# Altium footprint library HEXCAL_PCB_LIB.PcbLib: 209 footprints (part 13 of 14)
Each footprint in its own frame and in the unit in brackets; x right, y up, seen from the top. Pads: shape width x height; smd on the part's side, far side on the other; paste and mask are expansions set on the pad; w line width, h text height; cw(c..) or ccw(c..) is an arc to the next point about the centre after c.
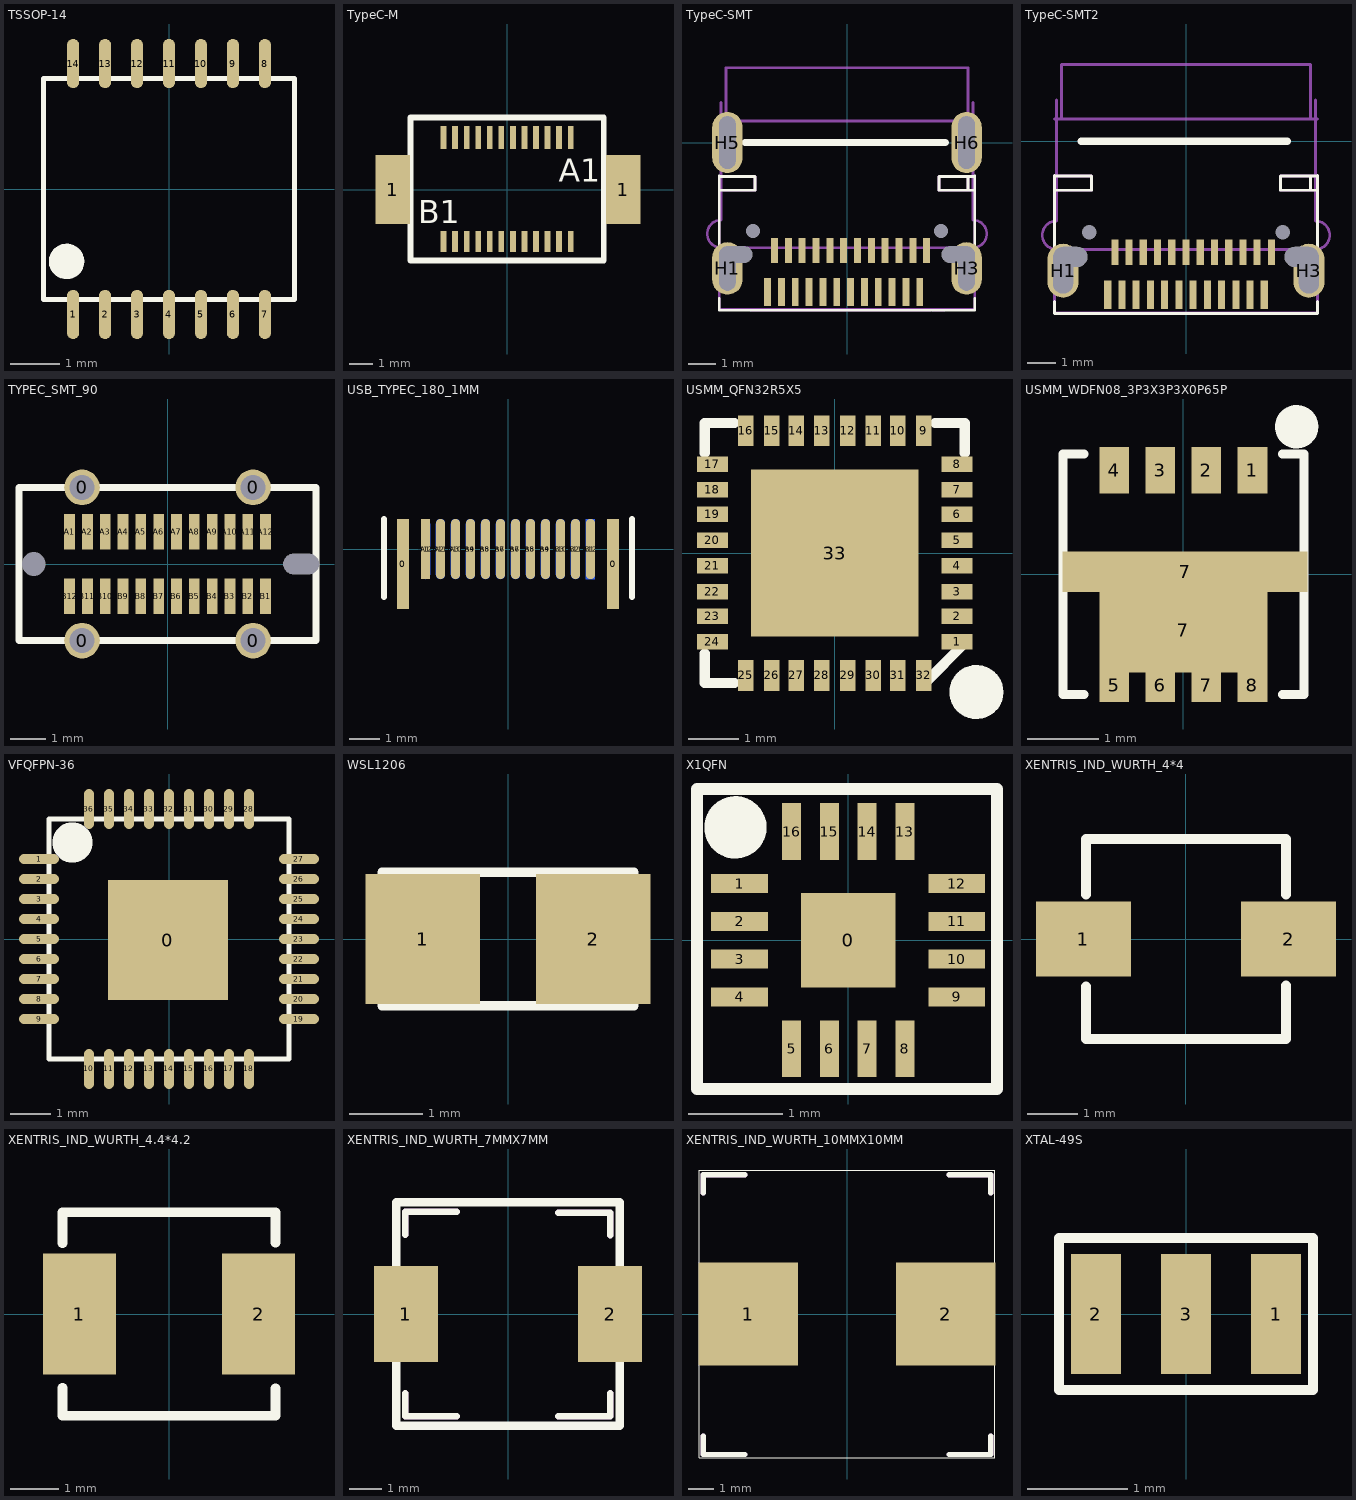
[diagram p12: the footprints below, top view; thin cyan lines are the x and y axes]

## TSSOP-14 [mm]
pads (14):
  oval 0.25x1 smd: 1(-1.95,-2.55) 2(-1.3,-2.55) 3(-0.65,-2.55) 4(0,-2.55) 5(0.65,-2.55) 6(1.3,-2.55) 7(1.95,-2.55) 8(1.95,2.55) 9(1.3,2.55) 10(0.65,2.55) 11(0,2.55) 12(-0.65,2.55) 13(-1.3,2.55) 14(-1.95,2.55)
Top Overlay:
  circle w0.254: c-2.083,-1.473 r0.076
  circle w0.254: c-2.083,-1.473 r0.234
  lines w0.1: -2.55,-2.25 2.55,-2.25 2.55,2.25 -2.55,2.25 -2.55,-2.25

## TypeC-M [mm]
pads (26):
  rect 1.5x3 smd: 1(-4.953,0) 1(5.029,0)
  rect 0.25x1 smd: A1(2.75,2.25) A2(2.25,2.25) A3(1.75,2.25) A4(1.25,2.25) A5(0.75,2.25) A6(0.25,2.25) A7(-0.25,2.25) A8(-0.75,2.25) A9(-1.25,2.25) A10(-1.75,2.25) A11(-2.25,2.25) A12(-2.75,2.25)
  rect 0.25x0.9 smd: B1(-2.75,-2.25) B2(-2.25,-2.25) B3(-1.75,-2.25) B4(-1.25,-2.25) B5(-0.75,-2.25) B6(-0.25,-2.25) B7(0.25,-2.25) B8(0.75,-2.25) B9(1.25,-2.25) B10(1.75,-2.25) B11(2.25,-2.25) B12(2.75,-2.25)
Top Overlay:
  lines w0.254: -4.18,-1.4 -4.18,0 ; 4.18,0 4.18,1.4 ; -4.18,-3.073 4.18,-3.073 4.18,3.124 0.741,3.124 -4.18,3.124 -4.18,-3.073
  text "A1" at 2.235,0.33 h1
  text "B1" at -3.835,-1.448 h1

## TypeC-SMT [mm]
pads (32):
  round 0 hole 0.5 unplated: 0(-3.4,-3.2) 0(3.4,-3.2)
  rect 0.25x1 smd: A1(2.63,-5.4) A2(2.13,-5.4) A3(1.63,-5.4) A4(1.13,-5.4) A5(0.63,-5.4) A6(0.13,-5.4) A7(-0.37,-5.4) A8(-0.87,-5.4) A9(-1.37,-5.4) A10(-1.87,-5.4) A11(-2.37,-5.4) A12(-2.87,-5.4)
  rect 0.25x0.9 smd: B1(-2.62,-3.9) B2(-2.12,-3.9) B3(-1.62,-3.9) B4(-1.12,-3.9) B5(-0.62,-3.9) B6(-0.12,-3.9) B7(0.38,-3.9) B8(0.88,-3.9) B9(1.38,-3.9) B10(1.88,-3.9) B11(2.38,-3.9) B12(2.88,-3.9)
  oval 1.1x1.9 hole 0.6 slot 1.6 at 90 deg: H1(-4.32,-4.55) H3(4.32,-4.55)
  round 0 hole 0.6 slot 1.2 at 0 deg: H2(-4.02,-4.05) H4(4.02,-4.05)
  oval 1.1x2.2 hole 0.6 slot 1.9 at 90 deg: H5(-4.32,0) H6(4.32,0)
Top Overlay:
  lines w0.1: -4.62,-6.058 4.62,-6.058 ; -4.62,-6.033 -4.62,-5.633 ; -4.62,-4.5 -4.62,-1.2 ; -4.62,-1.725 -3.32,-1.725 -3.32,-1.225 -4.62,-1.225 ; -2.372,-6.058 -2.26,-6.058 -1.12,-6.058 ; 4.37,-1.725 4.37,-1.225 ; 4.62,-6.023 4.62,-5.633 ; 4.62,-4.5 4.62,-1.2 ; 4.62,-1.725 3.32,-1.725 3.32,-1.225 4.62,-1.225
  lines w0.254: -3.683,0 3.556,0
Mechanical 1:
  lines w0.1: -4.55,1.45 -4.55,-2.8 ccw(c-4.55,-3.3) -4.55,-3.8 4.55,-3.8 ccw(c4.55,-3.3) 4.55,-2.8 4.55,1.45
Mechanical 5:
  lines w0.1: -4.62,-6.033 0,-6.033 4.609,-6.033 4.62,-6.023 4.62,-1.2 ; -4.62,-1.225 -3.32,-1.225 -3.32,-1.725 -4.62,-1.725 -4.62,-6.02 -4.62,-1.2 ; -4.62,0.775 -3.32,0.775 3.32,0.775 4.62,0.775 ; -4.37,0.775 -4.37,2.7 ; -4.37,0.8 -4.37,2.458 ; -4.369,2.7 4.37,2.7 4.37,0.775 ; -3.461,-6.058 -3.124,-6.058 ; -3.244,-6.058 -3.171,-6.058 -2.372,-6.058 -2.26,-6.058 2.02,-6.058 2.132,-6.058 2.931,-6.058 3.004,-6.058 ; 3.124,-6.058 3.461,-6.058 3.5,-6.058 ; 4.37,-1.725 4.37,-1.225 ; 4.37,0.8 4.37,2.458 ; 4.62,-6.02 4.62,-1.725 3.32,-1.725 3.32,-1.225 4.62,-1.225

## TypeC-SMT2 [mm]
pads (30):
  round 0 hole 0.5: 0(3.4,-3.2) 1(-3.4,-3.2)
  rect 0.25x1 smd: A1(2.75,-5.4) A2(2.25,-5.4) A3(1.75,-5.4) A4(1.25,-5.4) A5(0.75,-5.4) A6(0.25,-5.4) A7(-0.25,-5.4) A8(-0.75,-5.4) A9(-1.25,-5.4) A10(-1.75,-5.4) A11(-2.25,-5.4) A12(-2.75,-5.4)
  rect 0.25x0.9 smd: B1(-2.5,-3.9) B2(-2,-3.9) B3(-1.5,-3.9) B4(-1,-3.9) B5(-0.5,-3.9) B6(0,-3.9) B7(0.5,-3.9) B8(1,-3.9) B9(1.5,-3.9) B10(2,-3.9) B11(2.5,-3.9) B12(3,-3.9)
  oval 1.1x1.9 hole 0.7 slot 1.6 at 90 deg: H1(-4.32,-4.55) H3(4.32,-4.55)
  round 0 hole 0.7 slot 1.2 at 0 deg: H2(-4.064,-4.064)
  oval 1.4x0 hole 0.7 slot 1.2 at 0 deg: H4(4.064,-4.064)
Top Overlay:
  lines w0.1: -4.62,-6.058 4.62,-6.058 ; -4.62,-6.033 -4.62,-5.633 ; -4.62,-4.5 -4.62,-1.2 ; -4.62,-1.725 -3.32,-1.725 -3.32,-1.225 -4.62,-1.225 ; -2.252,-6.058 -2.14,-6.058 -1,-6.058 ; 4.37,-1.725 4.37,-1.225 ; 4.62,-6.023 4.62,-5.633 ; 4.62,-4.5 4.62,-1.2 ; 4.62,-1.725 3.32,-1.725 3.32,-1.225 4.62,-1.225
  lines w0.254: -3.683,0 3.556,0
Mechanical 1:
  lines w0.1: -4.55,1.45 -4.55,-2.8 ccw(c-4.55,-3.3) -4.55,-3.8 4.55,-3.8 ccw(c4.55,-3.3) 4.55,-2.8 4.55,1.45
Mechanical 5:
  lines w0.1: -4.62,-6.033 0,-6.033 4.609,-6.033 4.62,-6.023 4.62,-1.2 ; -4.62,-1.225 -3.32,-1.225 -3.32,-1.725 -4.62,-1.725 -4.62,-6.02 -4.62,-1.2 ; -4.62,0.775 -3.32,0.775 3.32,0.775 4.62,0.775 ; -4.37,0.775 -4.37,2.7 ; -4.37,0.8 -4.37,2.458 ; -4.369,2.7 4.37,2.7 4.37,0.775 ; -3.461,-6.058 -3.124,-6.058 -3.051,-6.058 -2.252,-6.058 -2.14,-6.058 2.14,-6.058 2.252,-6.058 3.051,-6.058 3.124,-6.058 3.461,-6.058 3.5,-6.058 ; 4.37,-1.725 4.37,-1.225 ; 4.37,0.8 4.37,2.458 ; 4.62,-6.02 4.62,-1.725 3.32,-1.725 3.32,-1.225 4.62,-1.225

## TYPEC_SMT_90 [mm]
pads (30):
  rect 0x0 hole 0.66 unplated: 0(-3.75,0)
  round 1 hole 0.7 unplated: 0(-2.4,-2.15) 0(-2.4,2.15) 0(2.4,-2.15) 0(2.4,2.15)
  round 0 hole 0.58 slot 1 at 0 deg unplated: 0(3.75,0)
  rect 0.3x1 smd: A1(-2.75,0.9) A2(-2.25,0.9) A3(-1.75,0.9) A4(-1.25,0.9) A5(-0.75,0.9) A6(-0.25,0.9) A7(0.25,0.9) A8(0.75,0.9) A9(1.25,0.9) A10(1.75,0.9) A11(2.25,0.9) A12(2.75,0.9) B1(2.75,-0.9) B2(2.25,-0.9) B3(1.75,-0.9) B4(1.25,-0.9) B5(0.75,-0.9) B6(0.25,-0.9) B7(-0.25,-0.9) B8(-0.75,-0.9) B9(-1.25,-0.9) B10(-1.75,-0.9) B11(-2.25,-0.9) B12(-2.75,-0.9)
Top Overlay:
  lines w0.2: -4.17,-2.15 4.17,-2.15 4.17,2.15 2.4,2.15 -2.4,2.15 -4.17,2.15 -4.17,-2.15

## USB_TYPEC_180_1MM [mm]
pads (26):
  rect 0.4x3 all layers, no hole: 0(-3.5,-0.5) 0(3.5,-0.5)
  rect 0.3x2 smd: A1(-2.75,0)
  oval 0.3x2 smd: A2(-2.25,0) A3(-1.75,0) A4(-1.25,0) A5(-0.75,0) A6(-0.25,0) A7(0.25,0) A8(0.75,0) A9(1.25,0) A10(1.75,0) A11(2.25,0) A12(2.75,0)
  rect 0.3x2 smd far side: B1(2.75,0)
  oval 0.3x2 smd far side: B2(2.25,0) B3(1.75,0) B4(1.25,0) B5(0.75,0) B6(0.25,0) B7(-0.25,0) B8(-0.75,0) B9(-1.25,0) B10(-1.75,0) B11(-2.25,0) B12(-2.75,0)
Top Overlay:
  lines w0.2: -4.125,-1.6 -4.125,1 ; 4.125,-1.6 4.125,1

## USMM_QFN32R5X5 [mil]
pads (33):
  rect 24x12 smd: 1(95,-69) 2(95,-49) 3(95,-30) 4(95,-10) 5(95,10) 6(95,30) 7(95,49) 8(95,69) 17(-95,69) 18(-95,49) 19(-95,30) 20(-95,10) 21(-95,-10) 22(-95,-30) 23(-95,-49) 24(-95,-69)
  rect 12x24 smd: 9(69,95) 10(49,95) 11(30,95) 12(10,95) 13(-10,95) 14(-30,95) 15(-49,95) 16(-69,95) 25(-69,-95) 26(-49,-95) 27(-30,-95) 28(-10,-95) 29(10,-95) 30(30,-95) 31(49,-95) 32(69,-95)
  rect 129.92x129.92 smd: 33(0,0)
Top Overlay:
  circle w10: c110,-108 r16.03
  circle w10: c110,-108 r5
  circle w8: c110,-108 r12.13
  lines w8: -101,-78 -101,-101 -78,-101 ; -101,78 -101,101 -78,101 ; 71,-100 100,-71 ; 78,101 101,101 101,78

## USMM_WDFN08_3P3X3P3X0P65P [mm]
pads (10):
  rect 0.42x0.66 smd: 1(0.975,1.47) 2(0.325,1.47) 3(-0.325,1.47) 4(-0.975,1.47)
  rect 0.42x0.47 smd: 5(-0.975,-1.565) 6(-0.325,-1.565) 7(0.325,-1.565) 8(0.975,-1.565)
  rect 2.37x1.2 smd: 7(0,-0.787)
  rect 3.46x0.57 smd: 7(0.025,0.035)
Top Overlay:
  circle w0.254: c1.6,2.083 r0.18
  circle w0.254: c1.6,2.083 r0.105
  circle w0.254: c1.6,2.083 r0.105
  lines w0.127: -1.4,-1.7 -1.7,-1.7 -1.7,1.7 -1.4,1.7 ; 1.4,-1.7 1.7,-1.7 1.7,1.7 1.4,1.7

## VFQFPN-36 [mm]
pads (37):
  rect 3x3 smd: 0(-0.025,-0.025)
  oval 1x0.25 smd: 1(-3.25,2) 2(-3.25,1.5) 3(-3.25,1) 4(-3.25,0.5) 5(-3.25,0) 6(-3.25,-0.5) 7(-3.25,-1) 8(-3.25,-1.5) 9(-3.25,-2) 19(3.25,-2) 20(3.25,-1.5) 21(3.25,-1) 22(3.25,-0.5) 23(3.25,0) 24(3.25,0.5) 25(3.25,1) 26(3.25,1.5) 27(3.25,2)
  oval 0.25x1 smd: 10(-2,-3.25) 11(-1.5,-3.25) 12(-1,-3.25) 13(-0.5,-3.25) 14(0,-3.25) 15(0.5,-3.25) 16(1,-3.25) 17(1.5,-3.25) 18(2,-3.25) 28(2,3.25) 29(1.5,3.25) 30(1,3.25) 31(0.5,3.25) 32(0,3.25) 33(-0.5,3.25) 34(-1,3.25) 35(-1.5,3.25) 36(-2,3.25)
Top Overlay:
  circle w0.889: c-2.413,2.413 r0.057
  lines w0.127: -3,-3 -3,3 3,3 3,-3 -3,-3

## WSL1206 [mil]
pads (2):
  rect 62x70 smd: 1(-46,0) 2(46,0)
Top Overlay:
  lines w1: -68,-36 -68,36 68,36 68,-36 -68,-36
  lines w5: -68,-36 -68,36 68,36 68,-36 -68,-36
Mechanical 7:
  lines w1: -68,-35 -68,-36 68,-36 68,-35 ; -68,35 -68,36 68,36 68,35

## X1QFN [mm]
pads (17):
  rect 1x1 smd: 0(0,0)
  rect 0.6x0.2 smd: 1(-1.15,0.6) 2(-1.15,0.2) 3(-1.15,-0.2) 4(-1.15,-0.6) 9(1.15,-0.6) 10(1.15,-0.2) 11(1.15,0.2) 12(1.15,0.6)
  rect 0.2x0.6 smd: 5(-0.6,-1.15) 6(-0.2,-1.15) 7(0.2,-1.15) 8(0.6,-1.15) 13(0.6,1.15) 14(0.2,1.15) 15(-0.2,1.15) 16(-0.6,1.15)
Top Overlay:
  circle w0.254: c-1.194,1.194 r0.203
  circle w0.254: c-1.194,1.194 r0.114
  lines w0.127: -1.6,-1.575 -1.6,1.6 1.575,1.6 1.575,-1.575 -1.6,-1.575

## XENTRIS_IND_WURTH_4*4 [mm]
pads (2):
  rect 1.9x1.5 smd: 1(-2.05,0) 2(2.05,0)
Top Overlay:
  lines w0.2: -2,-0.953 -2,-2 2,-2 2,-0.927 ; -2,0.889 -2,2 2,2 2,0.889

## XENTRIS_IND_WURTH_4.4*4.2 [mm]
pads (2):
  rect 1.5x2.5 smd: 1(-1.85,0) 2(1.85,0)
Top Overlay:
  lines w0.2: -2.2,-1.524 -2.2,-2.1 2.2,-2.1 2.2,-1.537 ; -2.2,1.46 -2.2,2.1 2.2,2.1 2.2,1.473

## XENTRIS_IND_WURTH_7MMX7MM [mm]
pads (2):
  rect 2x3 smd: 1(-3.2,0) 2(3.2,0)
Top Overlay:
  lines w0.203: -3.226,-2.489 -3.226,-3.2 -1.6,-3.2 ; -3.226,2.489 -3.226,3.2 -1.6,3.2 ; 1.575,-3.2 3.2,-3.2 3.2,-2.489 ; 1.575,3.175 3.2,3.175 3.2,2.464
  lines w0.254: -3.5,-3.5 -3.5,3.5 3.5,3.5 3.5,-3.5 -3.5,-3.5
Mechanical 7:
  lines w0.203: -3.226,-2.489 -3.226,-3.2 -1.6,-3.2 ; -3.226,2.489 -3.226,3.2 -1.6,3.2 ; 1.575,-3.2 3.2,-3.2 3.2,-2.489 ; 1.575,3.175 3.2,3.175 3.2,2.464

## XENTRIS_IND_WURTH_10MMX10MM [mil]
pads (2):
  rect 152x157 smd: 1(-151,0) 2(151,0)
Top Overlay:
  lines w1: -226,-220 226,-220 226,220 -226,220 -226,-220
  lines w8: -220,-187 -220,-215 -156,-215 ; -220,185 -220,213 -156,213 ; 156,-215 220,-215 220,-187 ; 156,213 220,213 220,185
Mechanical 7:
  lines w8: -220,-187 -220,-215 -156,-215 ; -220,185 -220,213 -156,213 ; 156,-215 220,-215 220,-187 ; 156,213 220,213 220,185

## XTAL-49S [mm]
pads (3):
  rect 0.5x1.2 smd: 1(0.9,0) 2(-0.9,0) 3(0,0)
Top Overlay:
  lines w0.1: -1.27,-0.762 -1.27,0.762 1.27,0.762 1.27,-0.762 -1.27,-0.762